# Altium footprint library Passive.PcbLib: 35 footprints (part 3 of 3)
Each footprint in its own frame and in the unit in brackets; x right, y up, seen from the top. Pads: shape width x height; smd on the part's side, far side on the other; paste and mask are expansions set on the pad; w line width, h text height; cw(c..) or ccw(c..) is an arc to the next point about the centre after c.
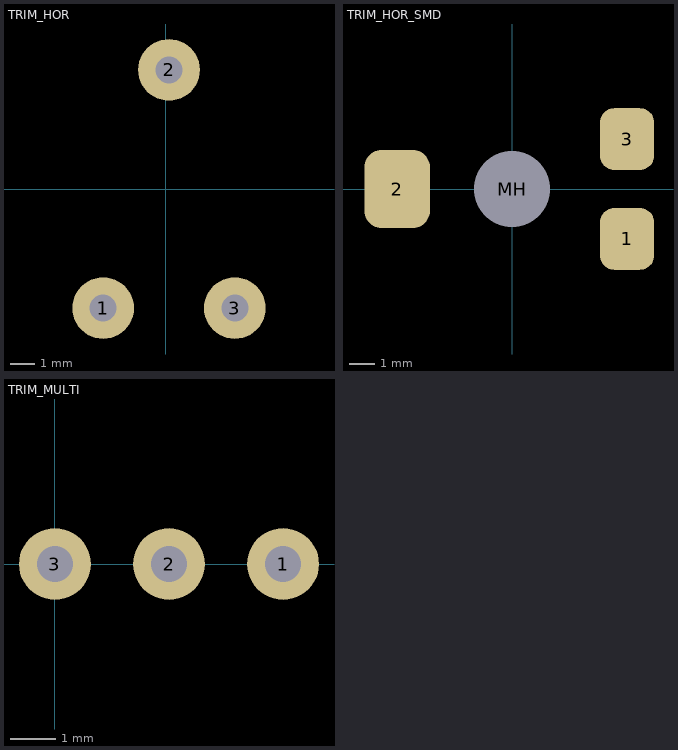
[diagram p2: the footprints below, top view; thin cyan lines are the x and y axes]

## TRIM_HOR [mm] "TRIM_HOR"
pads (3):
  round 2.5 hole 1.1: 1(-2.54,-4.826) 2(0.127,4.826) 3(2.794,-4.826)
3D body "Trimpot Horizontal.step": height 6.7, standoff -3.1, extent -4.853,-5.04 5.147,5.16

## TRIM_HOR_SMD [mm] "N6S25T0C-503-3030"
pads (4):
  rrect52% 2.15x2.45 smd mask+0: 1(4.55,-1.975) 3(4.55,1.975)
  rrect52% 2.6x3.1 smd mask+0: 2(-4.55,0)
  round 2 hole 3: MH(0,0)
3D body: height 10, standoff 0, extent -3,-3 3,3
3D body: height 6.2, standoff 0, extent -4.579,-3.25 4.572,3.227

## TRIM_MULTI [mm] "TRIM_MULTI"
pads (3):
  round 1.6 hole 0.8: 1(5.08,0) 2(2.54,0) 3(0,0)
3D body "Bourns_3299.step": height 11.56, standoff -6.22, extent -2.222,-1.905 7.302,4.191